# Altium schematic symbol library C_1nF_GRM1552C1H102J.SchLib: 1 symbol
Pins are listed as number, name and electrical type; pins without a type are passive.

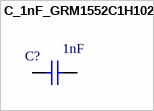
[diagram p0: symbol C_1nF_GRM1552C1H102J]

## C_1nF_GRM1552C1H102J
designator C?  (value not drawn)
footprint JIS1005_EIA0402_GRM1552C1H102J (Chip Capacitor, 2-Leads, Body 1.00x0.50mm, IPC Medium Density)
pins: 1, 2
text: 1nF